# Altium schematic symbol library ATOF_Fuse_Sch.SchLib: 1 symbol
Pins are listed as number, name and electrical type; pins without a type are passive.

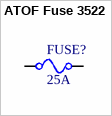
[diagram p0: symbol ATOF Fuse 3522]

## ATOF Fuse 3522
designator FUSE?, comment 25A
3522 ATOF automotive fuse; Value: 25A
footprint 3522 ATOF FUSE
pins: 1, 2